# EAGLE library part RM-10 (library resistor-sil)
Divider 6 Murata M-Type
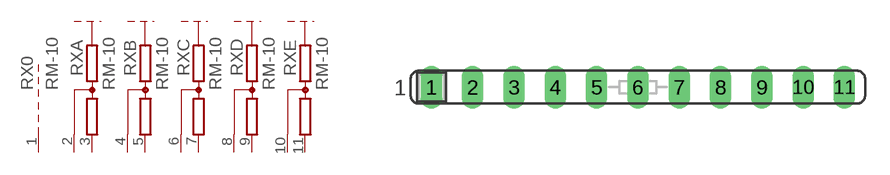
[diagram p48: symbol with the pads of SIL11; footprint SIL11]

Designator prefix RX; gates 0=R-P A=SIL-M B=SIL-M C=SIL-M D=SIL-M E=SIL-M

## RM-10 (OC_FARNELL: unknown; OC_NEWARK: unknown)  [SIL11]
1  0:2  pas
2  A:M1  pas
3  A:M2  pas
4  B:M1  pas
5  B:M2  pas
6  C:M1  pas
7  C:M2  pas
8  D:M1  pas
9  D:M2  pas
10  E:M1  pas
11  E:M2  pas

## Footprint SIL11 (pad centres in mm)
Single In Line
drill 0.813 long: 1 -12.7,0; 2 -10.16,0; 3 -7.62,0; 4 -5.08,0; 5 -2.54,0; 6 0,0; 7 2.54,0; 8 5.08,0; 9 7.62,0; 10 10.16,0; 11 12.7,0